# Altium footprint library DO-201.PcbLib: 1 footprints
Each footprint in its own frame and in the unit in brackets; x right, y up, seen from the top. Pads: shape width x height; smd on the part's side, far side on the other; paste and mask are expansions set on the pad; w line width, h text height; cw(c..) or ccw(c..) is an arc to the next point about the centre after c.
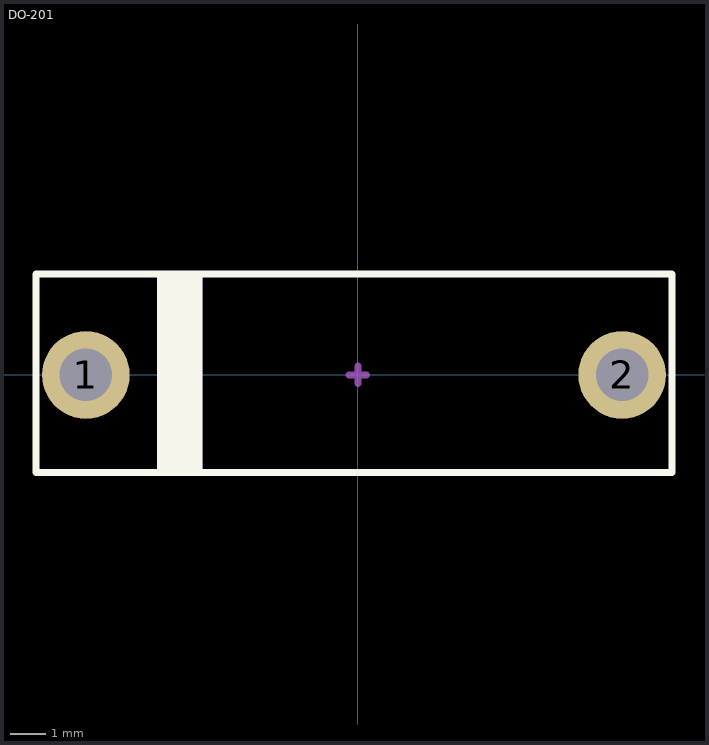
[diagram p0: the footprint, top view; thin cyan lines are the x and y axes]

## DO-201 [mm]
height 0.9
pads (2):
  round 2.5 hole 1.5: 1(-7.75,0) 2(7.525,0)
Top Overlay:
  rectangle: -5.725,-2.75 -4.425,2.875
  lines w0.2: -9.175,-2.775 8.95,-2.775 8.95,2.875 -9.175,2.875 -9.175,-2.775
Top Assembly:
  rectangle: -5.725,-2.825 -4.425,2.875
  lines w0.1: -9.175,-2.825 8.925,-2.825 8.925,2.85 -9.175,2.85 -9.175,-2.825
  lines w0.2: -0.25,0 0.25,0 ; 0,-0.25 0,0.25
  text "'.Designator'" at -0.95,-0.35 h0.7
3D body "User Library-DO-201AD.STEP": height 7.6, standoff -4, extent -8.4,-2.788 8.16,2.788